# EAGLE library part 6AF6 (library radiotubes)
Dual Indicator
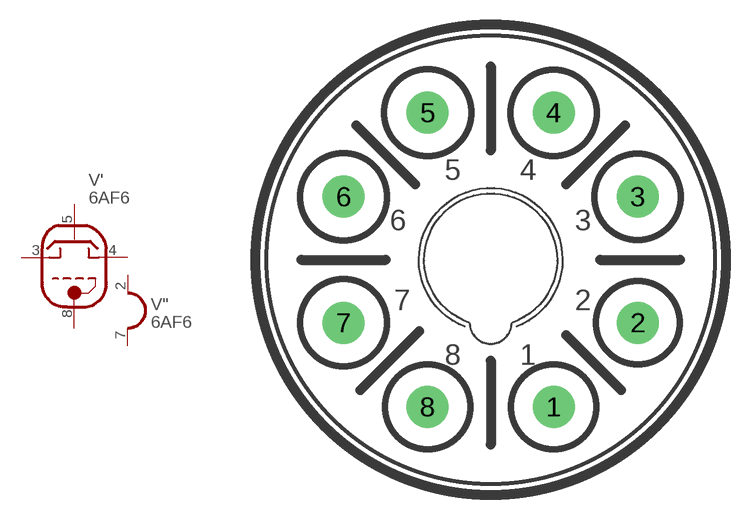
[diagram p148: symbol with the pads of OKTAL; footprint OKTAL]

Designator prefix V; gates '=6AF6 "=HEATER_1

## 6AF6  [OKTAL]
2  ":H1  pas
3  ':RC1  pas
4  ':RC2  pas
5  ':TA  pas
7  ":H2  pas
8  ':K  pas

## Footprint OKTAL (pad centres in mm)
drill 1.27 pad 2.54: 1 3.81,-8.89; 2 8.89,-3.81; 3 8.89,3.81; 4 3.81,8.89; 5 -3.81,8.89; 6 -8.89,3.81; 7 -8.89,-3.81; 8 -3.81,-8.89